# EAGLE library part HEXABIT_?_NO_P1_P2_P7_P8_P9 (library hexabitz_connectors)
Hexabitz Hexagon Module Connector Hexagon side length = 17.32mm. The following ports are removed: P1 P2 P7 P8 P9
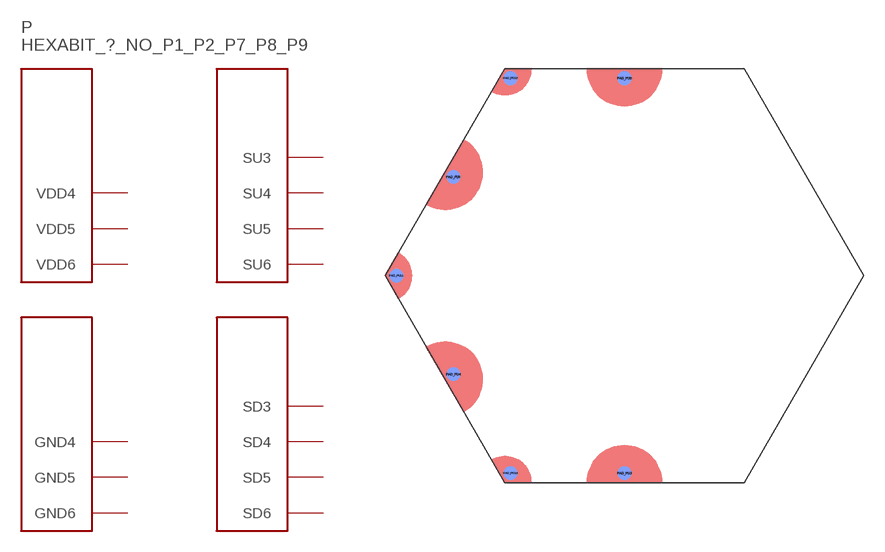
[diagram p8: symbol with the pads of HEXABIT_17.32_NO_P1_P2_P7_P8_P9; footprint HEXABIT_17.32_NO_P1_P2_P7_P8_P9]

Designator prefix P

## HEXABIT_17.32_NO_P1_P2_P7_P8_P9  [HEXABIT_17.32_NO_P1_P2_P7_P8_P9]
PAD_PD3  SD3
PAD_PD4  SD4
PAD_PD5  SD5
PAD_PD6  SD6
PAD_PD10  GND4  pwr
PAD_PD11  GND5  pwr
PAD_PD12  GND6  pwr
PAD_PU3  SU3
PAD_PU4  SU4
PAD_PU5  SU5
PAD_PU6  SU6
PAD_PU10  VDD4  pwr
PAD_PU11  VDD5  pwr
PAD_PU12  VDD6  pwr

## Footprint HEXABIT_17.32_NO_P1_P2_P7_P8_P9 (pad centres in mm)
smd 1 x 1 bottom: PAD_PD3 0,-14.31; PAD_PD4 -12.39,-7.15; PAD_PD5 -12.39,7.15; PAD_PD6 0,14.31; PAD_PD10 -8.26,-14.31; PAD_PD11 -16.52,0; PAD_PD12 -8.26,14.31
smd 1 x 1: PAD_PU3 0,-14.31; PAD_PU4 -12.39,-7.15; PAD_PU5 -12.39,7.15; PAD_PU6 0,14.31; PAD_PU10 -8.26,-14.31; PAD_PU11 -16.52,0; PAD_PU12 -8.26,14.31